# Altium footprint library PCB1.PcbLib: 6 footprints
Each footprint in its own frame and in the unit in brackets; x right, y up, seen from the top. Pads: shape width x height; smd on the part's side, far side on the other; paste and mask are expansions set on the pad; w line width, h text height; cw(c..) or ccw(c..) is an arc to the next point about the centre after c.
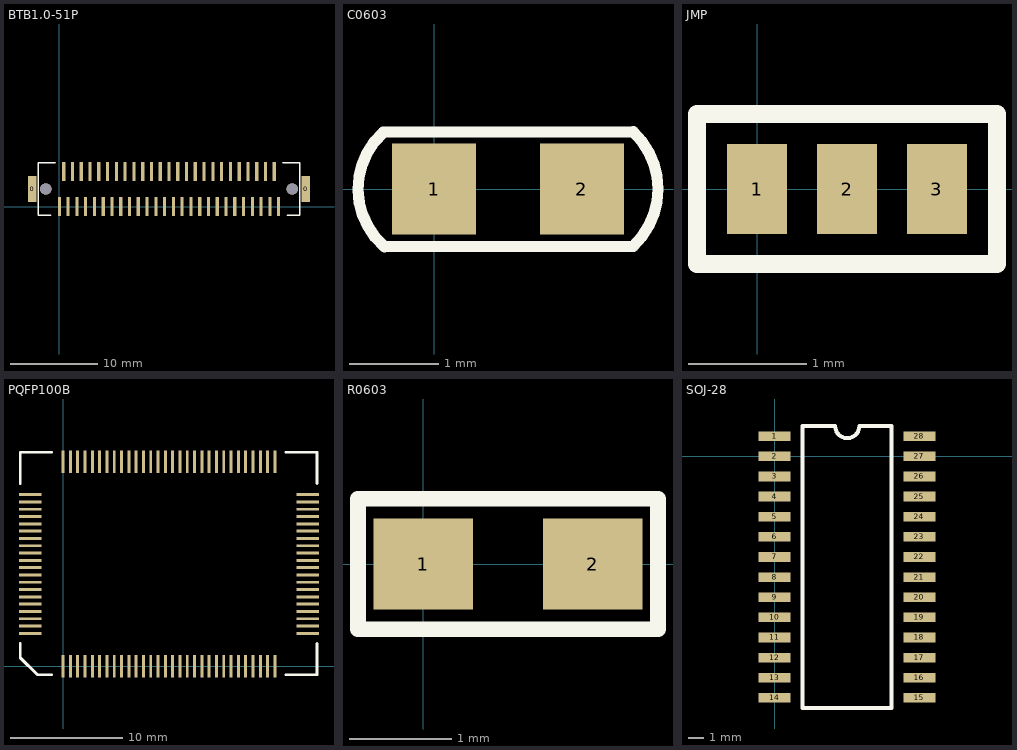
[diagram p0: the footprints below, top view; thin cyan lines are the x and y axes]

## BTB1.0-51P [mm]
pads (53):
  rect 1x3 smd: 0(-3.1,2) 0(28.1,2)
  rect 0.36x2.2 smd: 1(0,0) 2(1,0) 3(2,0) 4(3,0) 5(4,0) 6(5,0) 7(6,0) 8(7,0) 9(8,0) 10(9,0) 11(10,0) 12(11,0) 13(12,0) 14(13,0) 15(14,0) 16(15,0) 17(16,0) 18(17,0) 19(18,0) 20(19,0) 21(20,0) 22(21,0) 23(22,0) 24(23,0) 25(24,0) 26(25,0) 27(24.5,4) 28(23.5,4) 29(22.5,4) 30(21.5,4) 31(20.5,4) 32(19.5,4) 33(18.5,4) 34(17.5,4) 35(16.5,4) 36(15.5,4) 37(14.5,4) 38(13.5,4) 39(12.5,4) 40(11.5,4) 41(10.5,4) 42(9.5,4) 43(8.5,4) 44(7.5,4) 45(6.5,4) 46(5.5,4) 47(4.5,4) 48(3.5,4) 49(2.5,4) 50(1.5,4) 51(0.5,4)
via 26.55,2 diameter 1.3 hole 1.3
via -1.55,2 diameter 1.3 hole 1.3
Top Overlay:
  lines w0.203: -1,-1 -2.4,-1 -2.4,5 -0.5,5 ; 25.5,5 27.4,5 27.4,-1 26,-1

## C0603 [mil]
pads (2):
  rect 37.01x40 smd: 1(0,0)
  rect 37x40 smd: 2(64.98,0)
Top Overlay:
  lines w5: -22.44,24.9 ccw(c-0.02,0) -21.86,-25.4 87.58,-25.17 ccw(c63.98,0) 87.6,25.15 -22.43,24.9

## JMP [mil]
pads (3):
  rect 20x30 smd: 1(0,0) 2(30,0) 3(60,0)
Top Overlay:
  lines w6: -20,-25 80,-25 80,25 -20,25 -20,-25

## PQFP100B [mm]
pads (100):
  rect 0.26x2 smd: 1(0,0) 2(0.65,0) 3(1.3,0) 4(1.95,0) 5(2.6,0) 6(3.25,0) 7(3.9,0) 8(4.55,0) 9(5.2,0) 10(5.85,0) 11(6.5,0) 12(7.15,0) 13(7.8,0) 14(8.45,0) 15(9.1,0) 16(9.75,0) 17(10.4,0) 18(11.05,0) 19(11.7,0) 20(12.35,0) 21(13,0) 22(13.65,0) 23(14.3,0) 24(14.95,0) 25(15.6,0) 26(16.25,0) 27(16.9,0) 28(17.55,0) 29(18.2,0) 30(18.85,0) 51(18.85,18.2) 52(18.2,18.2) 53(17.55,18.2) 54(16.9,18.2) 55(16.25,18.2) 56(15.6,18.2) 57(14.95,18.2) 58(14.3,18.2) 59(13.65,18.2) 60(13,18.2) 61(12.35,18.2) 62(11.7,18.2) 63(11.05,18.2) 64(10.4,18.2) 65(9.75,18.2) 66(9.1,18.2) 67(8.45,18.2) 68(7.8,18.2) 69(7.15,18.2) 70(6.5,18.2) 71(5.85,18.2) 72(5.2,18.2) 73(4.55,18.2) 74(3.9,18.2) 75(3.25,18.2) 76(2.6,18.2) 77(1.95,18.2) 78(1.3,18.2) 79(0.65,18.2) 80(0,18.2)
  rect 2x0.26 smd: 31(21.775,2.925) 32(21.775,3.575) 33(21.775,4.225) 34(21.775,4.875) 35(21.775,5.525) 36(21.775,6.175) 37(21.775,6.825) 38(21.775,7.475) 39(21.775,8.125) 40(21.775,8.775) 41(21.775,9.425) 42(21.775,10.075) 43(21.775,10.725) 44(21.775,11.375) 45(21.775,12.025) 46(21.775,12.675) 47(21.775,13.325) 48(21.775,13.975) 49(21.775,14.625) 50(21.775,15.275) 81(-2.925,15.275) 82(-2.925,14.625) 83(-2.925,13.975) 84(-2.925,13.325) 85(-2.925,12.675) 86(-2.925,12.025) 87(-2.925,11.375) 88(-2.925,10.725) 89(-2.925,10.075) 90(-2.925,9.425) 91(-2.925,8.775) 92(-2.925,8.125) 93(-2.925,7.475) 94(-2.925,6.825) 95(-2.925,6.175) 96(-2.925,5.525) 97(-2.925,4.875) 98(-2.925,4.225) 99(-2.925,3.575) 100(-2.925,2.925)
Top Overlay:
  lines w0.254: -3.81,2.032 -3.81,0.762 -2.286,-0.762 -1.016,-0.762 ; -3.81,16.256 -3.81,19.05 -1.016,19.05 ; 19.812,-0.762 22.606,-0.762 22.606,2.032 ; 19.812,19.05 22.606,19.05 22.606,16.256

## R0603 [mil]
pads (2):
  rect 38x35 smd: 1(0,0) 2(65,0)
Top Overlay:
  lines w5.91: -25,-25 90,-25 ; -25,25 90,25
  lines w6: -25,-25 -25,25 ; 90,-25 90,25

## SOJ-28 [mil] "薄贴片"
pads (28):
  rect 80x24 smd: 1(0,50) 2(0,0) 3(0,-50) 4(0,-100) 5(0,-150) 6(0,-200) 7(0,-250) 8(0,-300) 9(0,-350) 10(0,-400) 11(0,-450) 12(0,-500) 13(0,-550) 14(0,-600) 15(360,-600) 16(360,-550) 17(360,-500) 18(360,-450) 19(360,-400) 20(360,-350) 21(360,-300) 22(360,-250) 23(360,-200) 24(360,-150) 25(360,-100) 26(360,-50) 27(360,0) 28(360,50)
Top Overlay:
  lines w10: 70,-625 290,-625 290,75 210.62,75 cw(c180.62,75) 150.61,75 70,75 70,-625